# Altium integrated library TSW-103-19-S-S.IntLib: 1 symbol
Pins are listed as number, name and electrical type; pins without a type are passive.

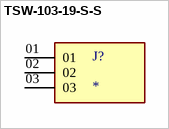
[diagram p0: symbol TSW-103-19-S-S]

## TSW-103-19-S-S
designator J?
MP: TSW-103-19-S-S; Package: None; Price: None; Value: *; Availability: Unavailable
footprint SAMTEC_TSW-103-19-S-S
pins: 01, 02, 03